# Altium footprint library PCB - DIODES - SOD-123.PCBLIB: 1 footprints
Each footprint in its own frame and in the unit in brackets; x right, y up, seen from the top. Pads: shape width x height; smd on the part's side, far side on the other; paste and mask are expansions set on the pad; w line width, h text height; cw(c..) or ccw(c..) is an arc to the next point about the centre after c.
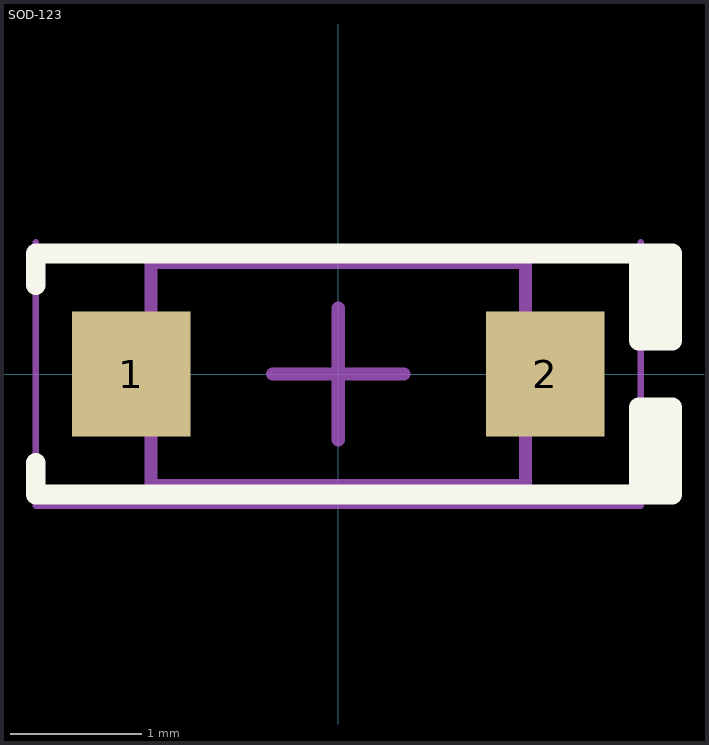
[diagram p0: the footprint, top view; thin cyan lines are the x and y axes]

## SOD-123 [mm] "SOD, 2-Leads, Body 1.55x3.70mm, IPC Medium Density"
height 1.35
pads (2):
  rect 0.9x0.95 smd: 1(-1.575,0) 2(1.575,0)
Top Overlay:
  lines w0.15: -2.3,-0.675 -2.3,-0.916 2.286,-0.916 ; -2.3,0.675 -2.3,0.916 2.286,0.916 ; 2.286,-0.916 2.413,-0.916 ; 2.286,-0.916 2.286,-0.254 2.413,-0.254 ; 2.286,0.916 2.286,0.254 2.413,0.254 ; 2.286,0.916 2.413,0.916 ; 2.413,-0.916 2.54,-0.916 2.54,-0.254 2.413,-0.254 ; 2.413,-0.916 2.413,-0.254 ; 2.413,0.254 2.54,0.254 2.54,0.916 2.413,0.916 ; 2.413,0.254 2.413,0.916
Mechanical 13:
  lines w0.1: -1.425,-0.85 -1.425,0.85 1.425,0.85 1.425,-0.85 -1.425,-0.85
Mechanical 15:
  lines w0.05: -2.3,0.9 2.3,0.9 ; -2.3,1 -2.3,-1 2.3,-1 2.3,1
  lines w0.1: -0.5,0 0.5,0 ; 0,-0.5 0,0.5
3D body "SOD-123.STEP": height 1.35, standoff 0, extent -1.864,-0.775 1.864,0.775